# EAGLE library part 74HC193 (library 74HC)
Synchronous up/down binary counter with clear
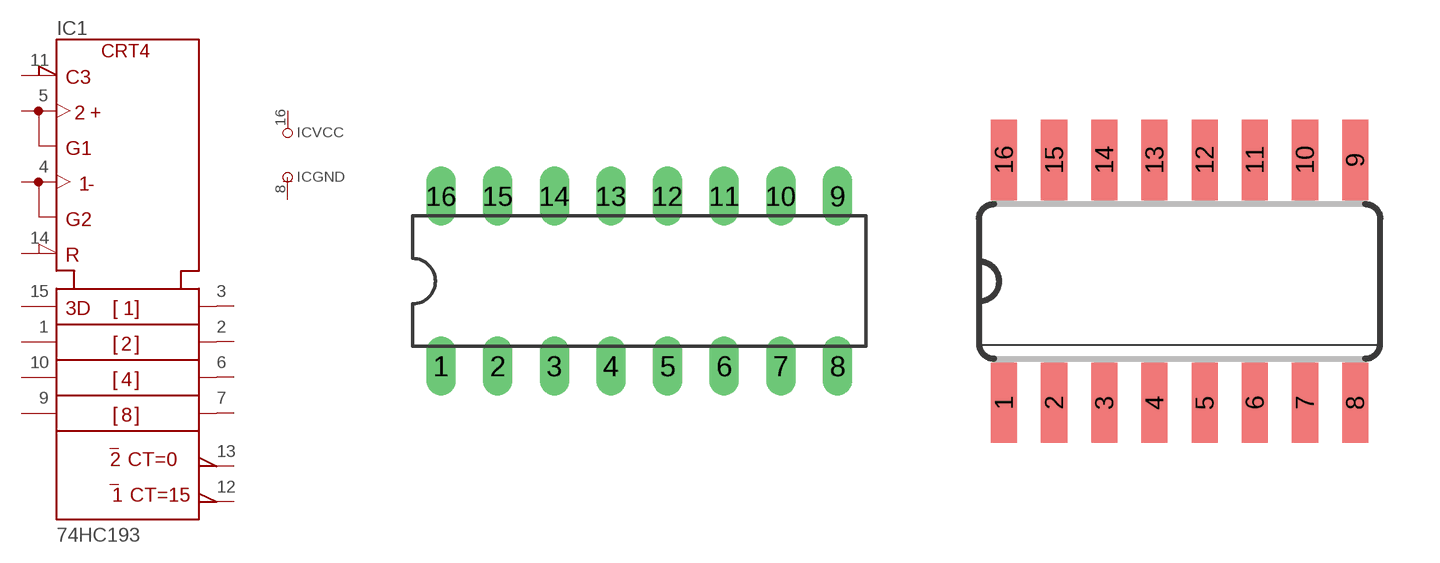
[diagram p0: symbol with the pads of DIL16; footprints DIL16, SO16]

Designator prefix IC; gates 1=193 VCC=VCC GND=GND

## 74HC193-DIL16 (DATASHEET: http://www.nxp.com/documents/data_sheet/74HC_HCT193.pdf)  [DIL16]
1  1:D1  in
2  1:Q1  out
3  1:Q0  out
4  1:CPD  in
5  1:CPU  in
6  1:Q2  out
7  1:Q3  out
8  GND:GND  pwr
9  1:D3  in
10  1:D2  in
11  1:PL  in
12  1:TCD
13  1:TCU
14  1:MR  in
15  1:D0  in
16  VCC:VCC  pwr

## 74HC193-SO16 (DATASHEET: http://www.nxp.com/documents/data_sheet/74HC_HCT193.pdf)  [SO16]
1  1:D1  in
2  1:Q1  out
3  1:Q0  out
4  1:CPD  in
5  1:CPU  in
6  1:Q2  out
7  1:Q3  out
8  GND:GND  pwr
9  1:D3  in
10  1:D2  in
11  1:PL  in
12  1:TCU
13  1:TCD
14  1:MR  in
15  1:D0  in
16  VCC:VCC  pwr

## Footprint DIL16 (pad centres in mm)
Dual In Line Package
drill 0.813 long: 1 -8.89,-3.81; 2 -6.35,-3.81; 3 -3.81,-3.81; 4 -1.27,-3.81; 5 1.27,-3.81; 6 3.81,-3.81; 7 6.35,-3.81; 8 8.89,-3.81; 9 8.89,3.81; 10 6.35,3.81; 11 3.81,3.81; 12 1.27,3.81; 13 -1.27,3.81; 14 -3.81,3.81; 15 -6.35,3.81; 16 -8.89,3.81

## Footprint SO16 (pad centres in mm)
Small Outline package 150 mil
smd 0.66 x 2.032: 1 -4.445,-3.073; 2 -3.175,-3.073; 3 -1.905,-3.073; 4 -0.635,-3.073; 5 0.635,-3.073; 6 1.905,-3.073; 7 3.175,-3.073; 8 4.445,-3.073; 9 4.445,3.073; 10 3.175,3.073; 11 1.905,3.073; 12 0.635,3.073; 13 -0.635,3.073; 14 -1.905,3.073; 15 -3.175,3.073; 16 -4.445,3.073